# Altium footprint library SDR1307-4R7ML.PcbLib: 1 footprints
Each footprint in its own frame and in the unit in brackets; x right, y up, seen from the top. Pads: shape width x height; smd on the part's side, far side on the other; paste and mask are expansions set on the pad; w line width, h text height; cw(c..) or ccw(c..) is an arc to the next point about the centre after c.
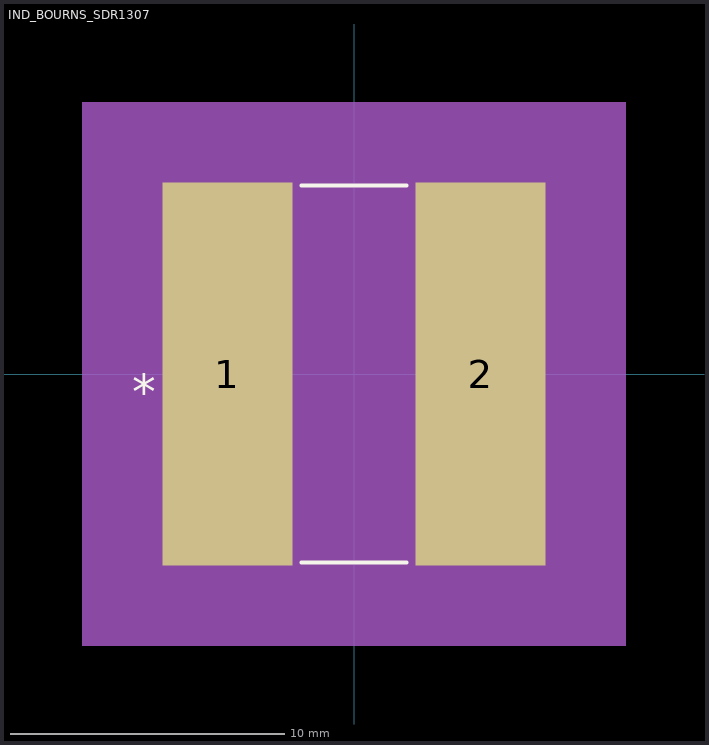
[diagram p0: the footprint, top view; thin cyan lines are the x and y axes]

## IND_BOURNS_SDR1307 [mil]
pads (2):
  rect 187x551 smd paste+0 mask+0: 1(-182,0) 2(182,0)
Top Overlay:
  lines w6: -75.4,-271 75.4,-271 ; -75.4,271 75.4,271
  text "*" at -318.5,-50 h50
Mechanical 5:
  region: -391,391 391,391 391,-391 -391,-391
Mechanical 13:
  lines w1: -266,-133 -266,133 -133,266 133,266 266,133 266,-133 133,-266 -133,-266 -266,-133
  text "*" at -258.5,-50 h50
Mechanical 15:
  region: 285.5,-285.5 -285.5,-285.5 -285.5,285.5 285.5,285.5
  lines w6: -285.5,-285.5 -285.5,285.5 285.5,285.5 285.5,-285.5 -285.5,-285.5
3D body: height 10, standoff 0, extent 0,0 10,10